# EAGLE library part HEADER-2X6 (library old-4ms-main-parts)
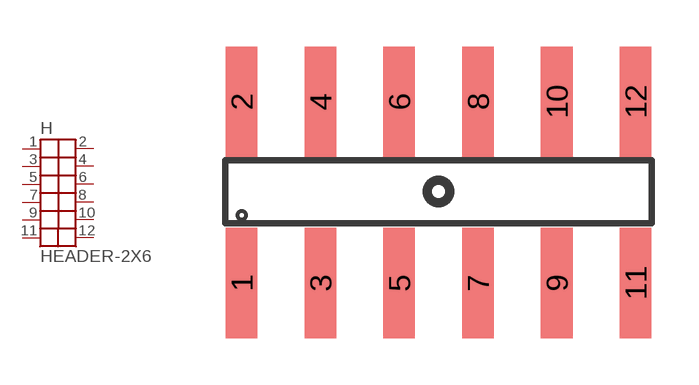
[diagram p33: symbol with the pads of HEADER-2X6-SMT; footprint HEADER-2X6-SMT]

Designator prefix H

## HEADER-2X6-SMT  [HEADER-2X6-SMT]
1  P$1
2  P$2
3  P$3
4  P$4
5  P$5
6  P$6
7  P$7
8  P$8
9  P$9
10  P$10
11  P$11
12  P$12

## Footprint HEADER-2X6-SMT (pad centres in mm)
smd 1.016 x 3.556: 1 -6.35,-2.95; 2 -6.35,2.899; 3 -3.81,-2.95; 4 -3.81,2.899; 5 -1.27,-2.95; 6 -1.27,2.899; 7 1.27,-2.95; 8 1.27,2.899; 9 3.81,-2.95; 10 3.81,2.899; 11 6.35,-2.95; 12 6.35,2.899